# EAGLE library part 2X16-SOCKET-HEADER (library v2)
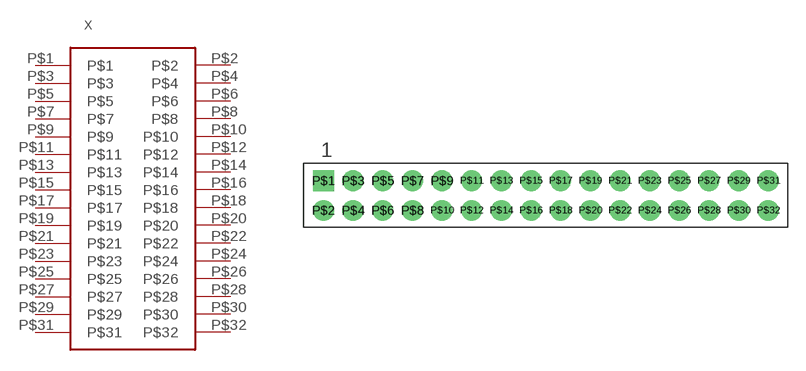
[diagram p1: symbol with the pads of 2X16-SOCKET-HEADER; footprint 2X16-SOCKET-HEADER]

Designator prefix X

## 2X16-SOCKET-HEADER  [2X16-SOCKET-HEADER]
P$1  P$1  pas
P$2  P$2  pas
P$3  P$3  pas
P$4  P$4  pas
P$5  P$5  pas
P$6  P$6  pas
P$7  P$7  pas
P$8  P$8  pas
P$9  P$9  pas
P$10  P$10  pas
P$11  P$11  pas
P$12  P$12  pas
P$13  P$13  pas
P$14  P$14  pas
P$15  P$15  pas
P$16  P$16  pas
P$17  P$17  pas
P$18  P$18  pas
P$19  P$19  pas
P$20  P$20  pas
P$21  P$21  pas
P$22  P$22  pas
P$23  P$23  pas
P$24  P$24  pas
P$25  P$25  pas
P$26  P$26  pas
P$27  P$27  pas
P$28  P$28  pas
P$29  P$29  pas
P$30  P$30  pas
P$31  P$31  pas
P$32  P$32  pas

## Footprint 2X16-SOCKET-HEADER (pad centres in mm)
drill 0.85 pad 1.778 square: P$1 -17.78,0
drill 0.85 pad 1.778: P$2 -17.78,-2.54; P$3 -15.24,0; P$4 -15.24,-2.54; P$5 -12.7,0; P$6 -12.7,-2.54; P$7 -10.16,0; P$8 -10.16,-2.54; P$9 -7.62,0; P$10 -7.62,-2.54; P$11 -5.08,0; P$12 -5.08,-2.54; P$13 -2.54,0; P$14 -2.54,-2.54; P$15 0,0; P$16 0,-2.54; P$17 2.54,0; P$18 2.54,-2.54; P$19 5.08,0; P$20 5.08,-2.54; P$21 7.62,0; P$22 7.62,-2.54; P$23 10.16,0; P$24 10.16,-2.54; P$25 12.7,0; P$26 12.7,-2.54; P$27 15.24,0; P$28 15.24,-2.54; P$29 17.78,0; P$30 17.78,-2.54; P$31 20.32,0; P$32 20.32,-2.54